# EAGLE library part DB19 (library big-mess-o-wires)
SUB-D
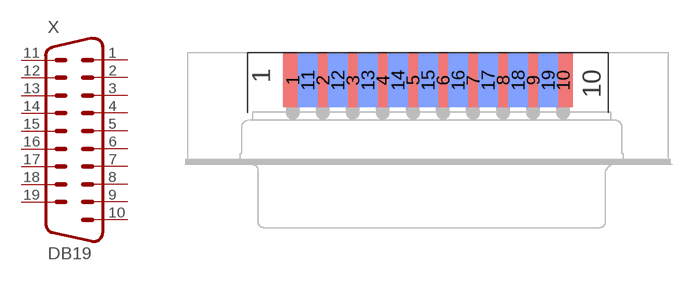
[diagram p0: symbol with the pads of DB19EDGE; footprint DB19EDGE]

Designator prefix X

## DB19EDGE  [DB19EDGE]
1  1  pas
2  2  pas
3  3  pas
4  4  pas
5  5  pas
6  6  pas
7  7  pas
8  8  pas
9  9  pas
10  10  pas
11  11  pas
12  12  pas
13  13  pas
14  14  pas
15  15  pas
16  16  pas
17  17  pas
18  18  pas
19  19  pas

## Footprint DB19EDGE (pad centres in mm)
SUB-D
smd 1.8 x 5: 1 -12.465,3; 2 -9.695,3; 3 -6.925,3; 4 -4.155,3; 5 -1.385,3; 6 1.385,3; 7 4.155,3; 8 6.925,3; 9 9.695,3; 10 12.465,3
smd 1.8 x 5 bottom: 11 -11.08,3; 12 -8.31,3; 13 -5.54,3; 14 -2.77,3; 15 0,3; 16 2.77,3; 17 5.54,3; 18 8.31,3; 19 11.08,3